# Altium footprint library 74Series.PcbLib: 7 footprints
Each footprint in its own frame and in the unit in brackets; x right, y up, seen from the top. Pads: shape width x height; smd on the part's side, far side on the other; paste and mask are expansions set on the pad; w line width, h text height; cw(c..) or ccw(c..) is an arc to the next point about the centre after c.
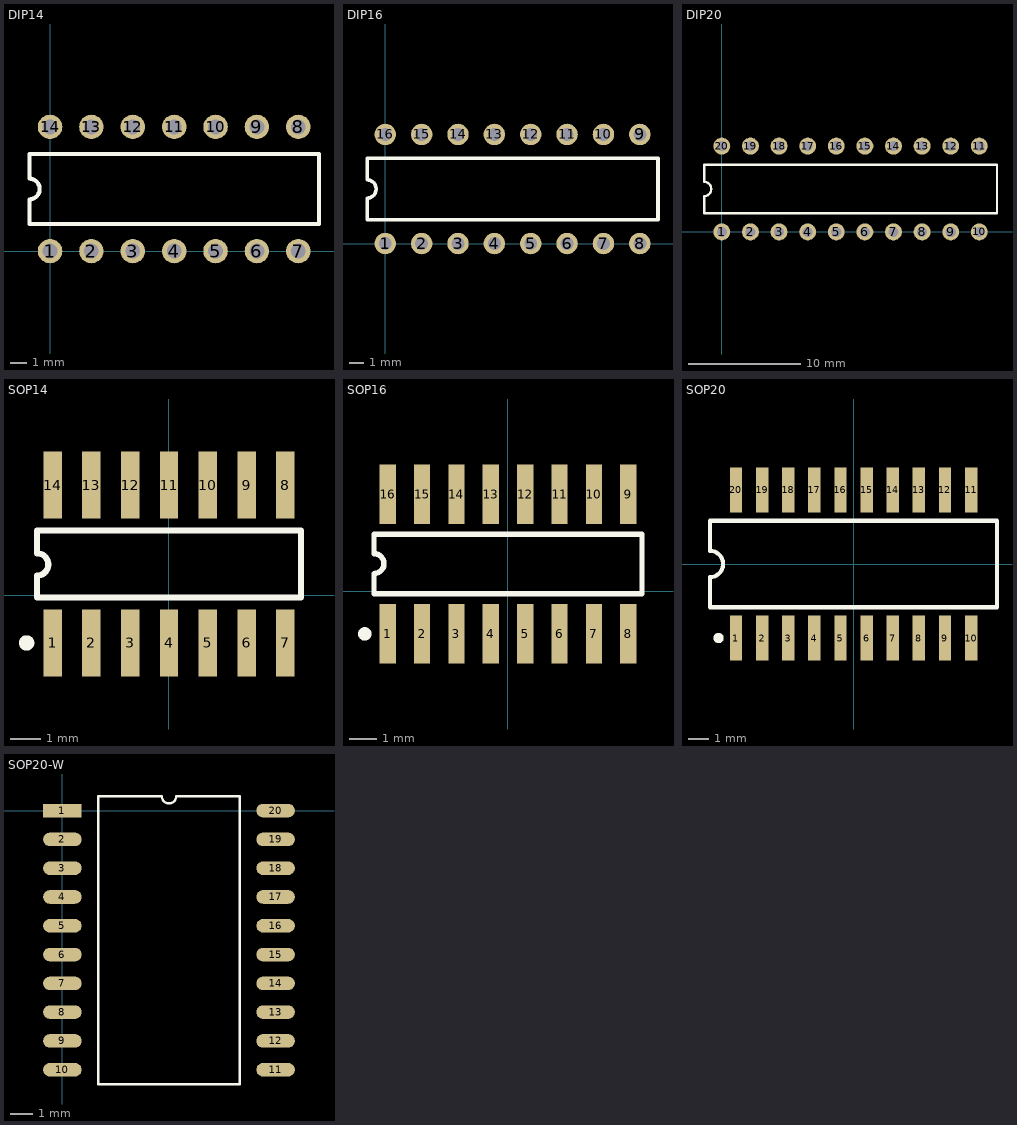
[diagram p0: the footprints below, top view; thin cyan lines are the x and y axes]

## DIP14 [mm]
pads (14):
  round 1.5 hole 0.9: 1(0,0) 2(2.54,0) 3(5.08,0) 4(7.62,0) 5(10.16,0) 6(12.7,0) 7(15.24,0) 8(15.24,7.62) 9(12.7,7.62) 10(10.16,7.62) 11(7.62,7.62) 12(5.08,7.62) 13(2.54,7.62) 14(0,7.62)
Top Overlay:
  lines w0.254: -1.27,1.651 16.51,1.651 16.51,5.969 -1.27,5.969 -1.27,4.445 cw(c-1.27,3.81) -1.27,3.175 -1.27,1.651

## DIP16 [mm]
pads (16):
  round 1.5 hole 0.9: 1(0,0) 2(2.54,0) 3(5.08,0) 4(7.62,0) 5(10.16,0) 6(12.7,0) 7(15.24,0) 8(17.78,0) 9(17.78,7.62) 10(15.24,7.62) 11(12.7,7.62) 12(10.16,7.62) 13(7.62,7.62) 14(5.08,7.62) 15(2.54,7.62) 16(0,7.62)
Top Overlay:
  lines w0.254: -1.27,1.651 19.05,1.651 19.05,5.969 -1.27,5.969 -1.27,4.445 cw(c-1.27,3.81) -1.27,3.175 -1.27,1.651

## DIP20 [mm] "DIP; 20 Leads; Row Spacing 7.62 mm; Pitch 2.54 mm"
pads (20):
  round 1.5 hole 0.9: 1(0,0) 2(2.54,0) 3(5.08,0) 4(7.62,0) 5(10.16,0) 6(12.7,0) 7(15.24,0) 8(17.78,0) 9(20.32,0) 10(22.86,0) 11(22.86,7.62) 12(20.32,7.62) 13(17.78,7.62) 14(15.24,7.62) 15(12.7,7.62) 16(10.16,7.62) 17(7.62,7.62) 18(5.08,7.62) 19(2.54,7.62) 20(0,7.62)
Top Overlay:
  lines w0.2: -1.57,1.651 24.43,1.651 24.43,5.969 -1.57,5.969 -1.57,4.445 cw(c-1.57,3.81) -1.57,3.175 -1.57,1.651

## SOP14 [mm]
pads (14):
  rect 0.6x2.2 smd: 1(-3.81,-1.568) 2(-2.54,-1.568) 3(-1.27,-1.568) 4(0,-1.568) 5(1.27,-1.568) 6(2.54,-1.568) 7(3.81,-1.568) 8(3.81,3.6) 9(2.54,3.6) 10(1.27,3.6) 11(0,3.6) 12(-1.27,3.6) 13(-2.54,3.6) 14(-3.81,3.6)
Top Overlay:
  circle w0.25: c-4.66,-1.568 r0.125
  lines w0.2: -4.318,-0.084 -4.318,0.635 ccw(c-4.318,1.002) -4.318,1.368 -4.318,2.116 4.318,2.116 4.318,-0.084 -4.318,-0.084

## SOP16 [mm]
pads (16):
  rect 0.6x2.2 smd: 1(-4.445,-1.568) 2(-3.175,-1.568) 3(-1.905,-1.568) 4(-0.635,-1.568) 5(0.635,-1.568) 6(1.905,-1.568) 7(3.175,-1.568) 8(4.445,-1.568) 9(4.445,3.6) 10(3.175,3.6) 11(1.905,3.6) 12(0.635,3.6) 13(-0.635,3.6) 14(-1.905,3.6) 15(-3.175,3.6) 16(-4.445,3.6)
Top Overlay:
  circle w0.25: c-5.295,-1.568 r0.125
  lines w0.2: -4.953,-0.084 4.953,-0.084 4.953,2.116 -4.953,2.116 -4.953,1.397 cw(c-4.953,1.03) -4.953,0.664 -4.953,-0.084

## SOP20 [mm]
pads (20):
  rect 0.6x2.2 smd: 1(-5.715,-3.6) 2(-4.445,-3.6) 3(-3.175,-3.6) 4(-1.905,-3.6) 5(-0.635,-3.6) 6(0.635,-3.6) 7(1.905,-3.6) 8(3.175,-3.6) 9(4.445,-3.6) 10(5.715,-3.6) 11(5.715,3.6) 12(4.445,3.6) 13(3.175,3.6) 14(1.905,3.6) 15(0.635,3.6) 16(-0.635,3.6) 17(-1.905,3.6) 18(-3.175,3.6) 19(-4.445,3.6) 20(-5.715,3.6)
Top Overlay:
  circle w0.25: c-6.565,-3.6 r0.125
  lines w0.2: -6.975,-2.1 6.975,-2.1 6.975,2.1 -6.975,2.1 -6.975,0.635 cw(c-6.975,0) -6.975,-0.635 -6.975,-2.1

## SOP20-W [mm]
pads (20):
  rect 1.7x0.6 smd: 1(0,0)
  oval 1.7x0.6 smd: 2(0,-1.27) 3(0,-2.54) 4(0,-3.81) 5(0,-5.08) 6(0,-6.35) 7(0,-7.62) 8(0,-8.89) 9(0,-10.16) 10(0,-11.43) 11(9.4,-11.43) 12(9.4,-10.16) 13(9.4,-8.89) 14(9.4,-7.62) 15(9.4,-6.35) 16(9.4,-5.08) 17(9.4,-3.81) 18(9.4,-2.54) 19(9.4,-1.27) 20(9.4,0)
Top Overlay:
  lines w0.1: 1.585,-12.065 1.585,0.635 4.382,0.635 ccw(c4.7,0.635) 5.017,0.635 7.815,0.635 7.815,-12.065 1.585,-12.065